# Altium schematic symbol library 2506033007Y3.SchLib: 2 symbols
Pins are listed as number, name and electrical type; pins without a type are passive.

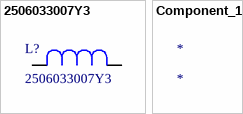
[diagram p0: symbols 2506033007Y3 to Component_1]

## 2506033007Y3
designator L?
No Description Available; Mfr_Name: Fair-Rite; Type: DEV; Copyright: Copyright (C) 2023 Ultra Librarian. All rights reserved.; Manufacturer_Part_Number: 2506033007Y3; Digi-Key_Part_Number_1: 1934-1439-1-ND; Digi-Key_Part_Number_2: 1934-1439-2-ND; Digi-Key_Part_Number_3: 1934-1439-6-ND; RefDes: RefDes
footprint IND_25_0603_FRT
pins: 1, 2

## Component_1
designator *